# EAGLE library part USB_SHIELD-VERT (library con-cypressindustries)
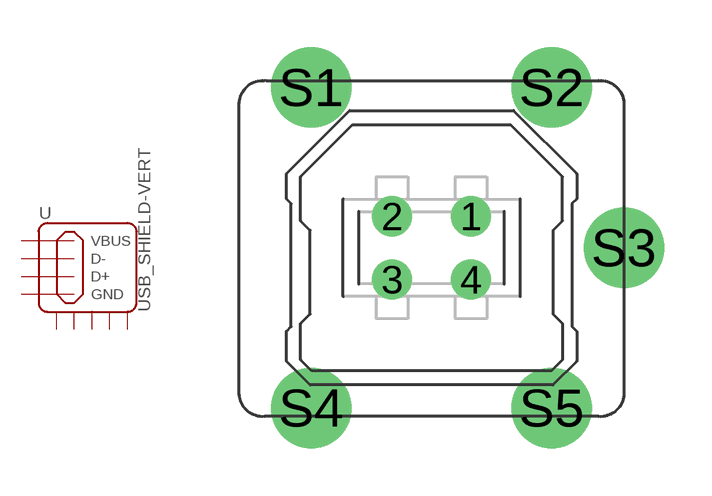
[diagram p13: symbol with the pads of 85-32004-10X-V; footprint 85-32004-10X-V]

Designator prefix -

## USB_SHIELD-VERT  [85-32004-10X-V]
1  VBUS  pas
2  D-  pas
3  D+  pas
4  GND  pas
S1  S1  pas
S2  S2  pas
S3  S3  pas
S4  S4  pas
S5  S5  pas

## Footprint 85-32004-10X-V (pad centres in mm)
drill 0.7 pad 1.27: 1 1.25,1; 2 -1.25,1; 3 -1.25,-1; 4 1.25,-1
drill 1.7: S1 -3.81,5.08; S2 3.81,5.08; S3 6.096,0; S4 -3.81,-5.08; S5 3.81,-5.08